# Altium footprint library SamacSys.PcbLib: 2 footprints
Each footprint in its own frame and in the unit in brackets; x right, y up, seen from the top. Pads: shape width x height; smd on the part's side, far side on the other; paste and mask are expansions set on the pad; w line width, h text height; cw(c..) or ccw(c..) is an arc to the next point about the centre after c.
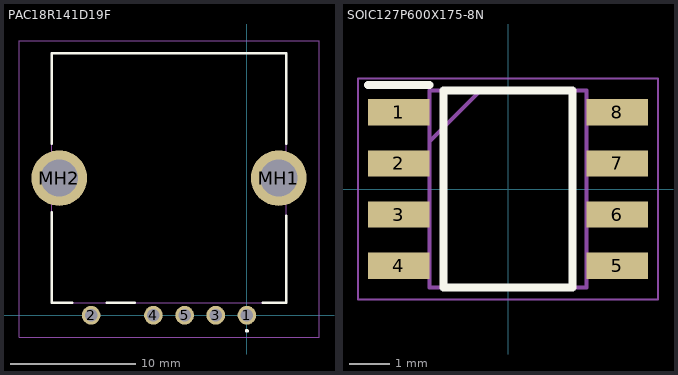
[diagram p0: the footprints below, top view; thin cyan lines are the x and y axes]

## PAC18R141D19F [mm]
pads (7):
  round 1.5 hole 1: 1(0,0) 2(-12.5,0) 3(-2.5,0) 4(-7.5,0) 5(-5,0)
  round 4.455 hole 2.97: MH1(2.55,11) MH2(-15.05,11)
Top Overlay:
  lines w0.2: -15.65,1 -14,1 -15.65,1 ; -15.65,1 -15.65,8.25 -15.65,1 ; -15.65,21 -15.65,13.75 -15.65,21 ; -15.65,21 3.15,21 ; -15.65,21 3.15,21 ; 0,-1.3 cw(c0,-1.25) 0,-1.2 ; 0,-1.3 ccw(c0,-1.25) 0,-1.2 ; 0,-1.3 cw(c0,-1.25) 0,-1.2 ; 3.15,1 3.15,8 3.15,1 ; 3.15,1 1.25,1 3.15,1 ; 3.15,21 3.15,13.75 3.15,21 ; -11.25,1 -9,1 -11.25,1
Mechanical 13:
  lines w0.1: -15.65,1 -15.65,21 3.15,21 3.15,1 -15.65,1
Mechanical 15:
  lines w0.1: -18.278,-1.75 -18.278,22 5.777,22 5.777,-1.75 -18.278,-1.75
3D body "PAC18R1-43D19F.stp": height 29.3, standoff -5, extent -16.424,-0.399 3.935,21

## SOIC127P600X175-8N [mm]
pads (8):
  rect 1.525x0.65 smd: 1(-2.712,1.905) 2(-2.712,0.635) 3(-2.712,-0.635) 4(-2.712,-1.905) 5(2.712,-1.905) 6(2.712,-0.635) 7(2.712,0.635) 8(2.712,1.905)
Top Overlay:
  lines w0.2: -3.475,2.58 -1.95,2.58 ; -1.6,-2.45 1.6,-2.45 1.6,2.45 -1.6,2.45 -1.6,-2.45
Mechanical 13:
  lines w0.1: -1.95,1.18 -0.68,2.45 ; -1.95,-2.45 1.95,-2.45 1.95,2.45 -1.95,2.45 -1.95,-2.45
Mechanical 15:
  lines w0.05: -3.725,-2.75 3.725,-2.75 3.725,2.75 -3.725,2.75 -3.725,-2.75
3D body "NE555DR.stp": height 1.75, standoff 0, extent -3,-2.45 3,2.45